# Altium footprint library MeasurePCB.PcbLib: 20 footprints (part 2 of 2)
Each footprint in its own frame and in the unit in brackets; x right, y up, seen from the top. Pads: shape width x height; smd on the part's side, far side on the other; paste and mask are expansions set on the pad; w line width, h text height; cw(c..) or ccw(c..) is an arc to the next point about the centre after c.
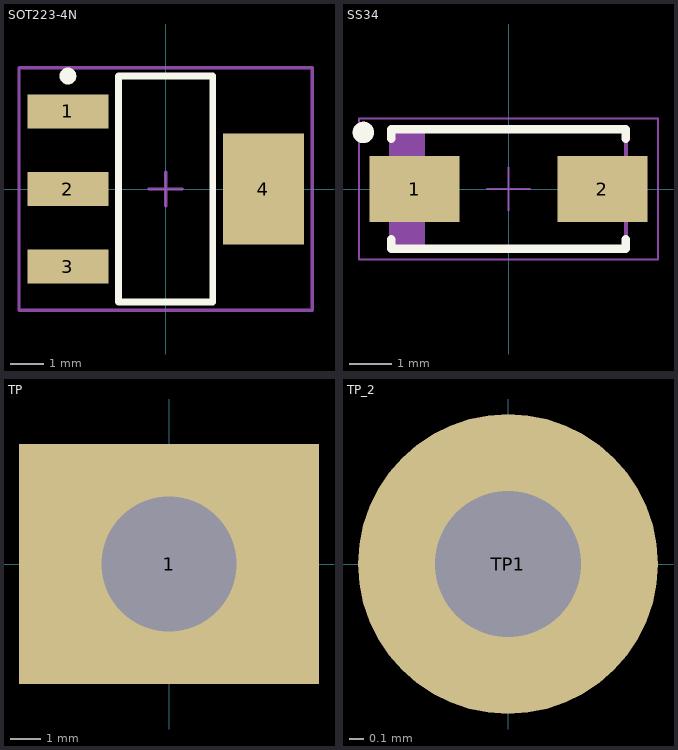
[diagram p1: the footprints below, top view; thin cyan lines are the x and y axes]

## SOT223-4N [mm] "SOT223, 4-Leads, Body 6.5x3.5mm, Pitch 2.3mm, Lead Span 7mm, IPC Medium Density"
height 1.8
pads (4):
  rect 2.4x1 smd: 1(-2.9,2.3) 2(-2.9,0) 3(-2.9,-2.3)
  rect 2.4x3.3 smd: 4(2.9,0)
Top Overlay:
  circle w0.25: c-2.9,3.35 r0.125
  lines w0.2: -1.4,-3.35 -1.4,3.35 1.4,3.35 1.4,-3.35 -1.4,-3.35
Mechanical 15:
  lines w0.1: -0.5,0 0.5,0 ; 0,-0.5 0,0.5 ; -4.35,-3.6 -4.35,3.6 4.35,3.6 4.35,-3.6 -4.35,-3.6
3D body "SW3dPS-Regulator.STEP": height 1.72, standoff 0.02, extent -3.395,-3.274 3.496,3.226

## SS34 [mm] "DO-214-AC/SMA Molded Diode, Body 5.3x2.6mm, IPC Medium Density"
height 2.3
pads (2):
  rect 2.1x1.55 smd: 1(-2.2,0) 2(2.2,0)
Top Overlay:
  circle w0.25: c-3.4,1.325 r0.125
  lines w0.2: -2.75,-1.175 -2.75,-1.4 2.75,-1.4 2.75,-1.175 ; -2.75,1.175 -2.75,1.4 2.75,1.4 2.75,1.175
Mechanical 14:
  lines w0.1: -2.66,-1.4 -2.66,1.4 ; -2.61,-1.4 -2.61,1.4 ; -2.535,-1.4 -2.535,1.4 ; -2.46,-1.4 -2.46,1.4 ; -2.385,-1.4 -2.385,1.4 ; -2.31,-1.4 -2.31,1.4 ; -2.235,-1.4 -2.235,1.4 ; -2.16,-1.4 -2.16,1.4 ; -2.085,-1.4 -2.085,1.4 ; -2.01,-1.4 -2.01,1.4 ; -2.75,-1.4 -2.75,1.4 2.75,1.4 2.75,-1.4 -2.75,-1.4
Mechanical 15:
  lines w0.05: -0.5,0 0.5,0 ; 0,-0.5 0,0.5 ; -3.5,-1.65 -3.5,1.65 3.5,1.65 3.5,-1.65 -3.5,-1.65
3D body "DIOM5326X230N.stp": height 2.3, standoff 0, extent -2.75,-1.4 2.75,1.4

## TP [mm]
pads (1):
  rect 10x8 hole 4.5: 1(0,0)

## TP_2 [mil]
pads (1):
  round 80 hole 39: TP1(0,0)
3D body "socket 1-1.stp": height 178.54, standoff -113.98, extent -50,-50 50,50